# EAGLE library part A3950_TSSOP16 (library A3950)
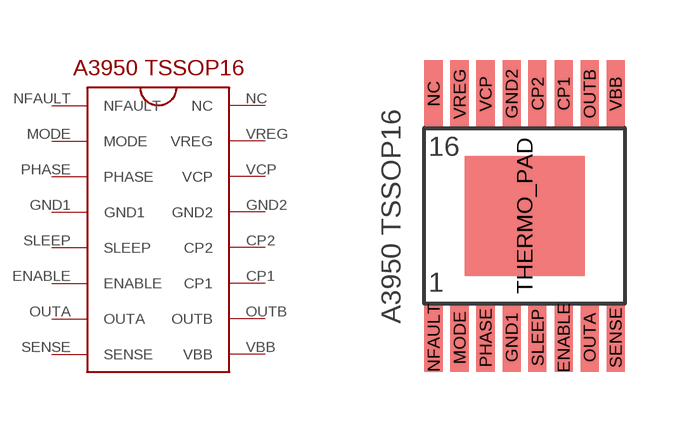
[diagram p1: symbol with the pads of A3950_TSSOP16; footprint A3950_TSSOP16]

Designator prefix -

## A3950_TSSOP16  [A3950_TSSOP16]
CP1  CP1
CP2  CP2
ENABLE  ENABLE
GND1  GND1
GND2  GND2
MODE  MODE
NC  NC
NFAULT  NFAULT
OUTA  OUTA
OUTB  OUTB
PHASE  PHASE
SENSE  SENSE
SLEEP  SLEEP
VBB  VBB
VCP  VCP
VREG  VREG

## Footprint A3950_TSSOP16 (pad centres in mm)
smd 0.45 x 1.7: CP1 0.975,3.05; CP2 0.325,3.05; ENABLE 0.975,-3.05; GND1 -0.325,-3.05; GND2 -0.325,3.05; MODE -1.625,-3.05; NC -2.275,3.05; NFAULT -2.275,-3.05; OUTA 1.625,-3.05; OUTB 1.625,3.05; PHASE -0.975,-3.05; SENSE 2.275,-3.05; SLEEP 0.325,-3.05; VBB 2.275,3.05; VCP -0.975,3.05; VREG -1.625,3.05
smd 3 x 3: THERMO_PAD 0,0